# Altium schematic symbol library CONN_3.5MM_COMBO.SchLib: 1 symbol
Pins are listed as number, name and electrical type; pins without a type are passive.

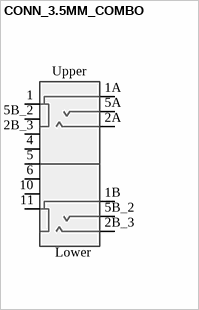
[diagram p0: symbol CONN_3.5MM_COMBO]

## CONN_3.5MM_COMBO
designator J?, comment 3.5mm DBL
3.50mm (0.141", 1/8", Mini Plug) - Headphone Phone Jack Stereo (3 Conductor, TRS) Connector Solder; Supplier 1: Digi-Key; Supplier Part Number 1: 2092-STX-4235-3/3-N-ND
footprint CONN_3.5MM_COMBO
pins: 1, 1A, 1B, 2A, 2B_3, 2B_3, 4, 5, 5A, 5B_2, 5B_2, 6, 10, 11
text: Upper; Lower